# Altium schematic symbol library USB1100-XX-X_REVC.SchLib: 1 symbol
Pins are listed as number, name and electrical type; pins without a type are passive.

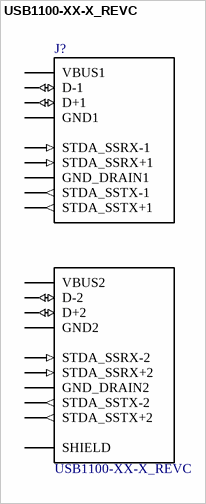
[diagram p0: symbol USB1100-XX-X_REVC]

## USB1100-XX-X_REVC
designator J?
Conn USB 3.0 Type A RCP 18 POS 2mm/2mm Solder RA Thru-Hole 18 Terminal 2 Port T/R; MF: Global Connector Technology; MP: USB1100-30-A; Availability: Unavailable; Price: None; Package: None; SnapEDA_Link: https://www.snapeda.com/parts/USB1100-30-A/Global%20Connector%20Technology/view-part/?ref=snap; Value: *
footprint *GCT_USB1100-XX-X_REVC
pins: 1 VBUS1 (power), 2 D-1 (io), 3 D+1 (io), 4 GND1, 5 STDA_SSRX-1 (in), 6 STDA_SSRX+1 (in), 7 GND_DRAIN1, 8 STDA_SSTX-1 (out), 9 STDA_SSTX+1 (out), 10 VBUS2 (power), 11 D-2 (io), 12 D+2 (io), 13 GND2, 14 STDA_SSRX-2 (in), 15 STDA_SSRX+2 (in), 16 GND_DRAIN2, 17 STDA_SSTX-2 (out), 18 STDA_SSTX+2 (out), 19 SHIELD, 20 SHIELD, 21 SHIELD, 22 SHIELD